# EAGLE library part PCIE-064-02-X-D-RA (library PCIE-064-02-X-D-RA)
PCI EXPRESS RIGHT ANGLE ASSEMBLY.
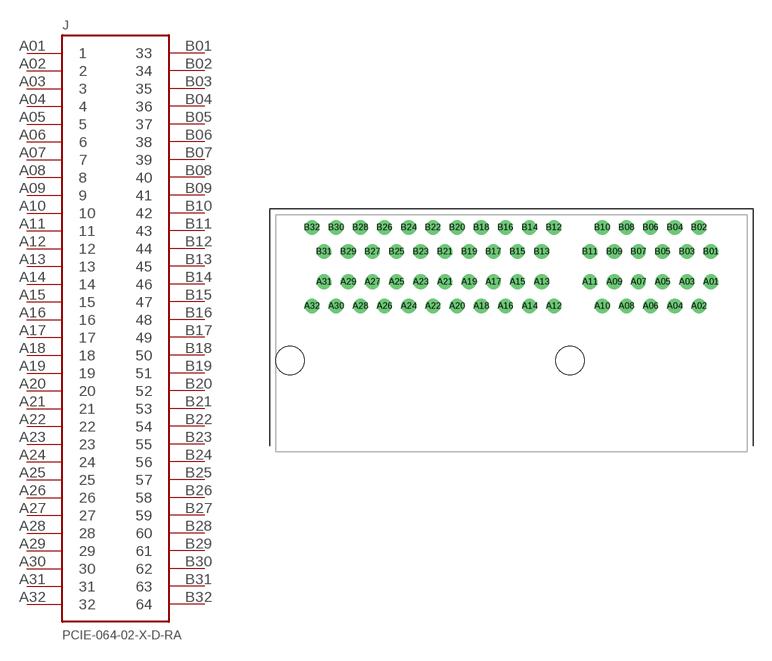
[diagram p0: symbol with the pads of PCIE-064-02-X-D-RA; footprint PCIE-064-02-X-D-RA]

Designator prefix J

## PCIE-064-02-X-D-RA  [PCIE-064-02-X-D-RA]
A01  1
A02  2
A03  3
A04  4
A05  5
A06  6
A07  7
A08  8
A09  9
A10  10
A11  11
A12  12
A13  13
A14  14
A15  15
A16  16
A17  17
A18  18
A19  19
A20  20
A21  21
A22  22
A23  23
A24  24
A25  25
A26  26
A27  27
A28  28
A29  29
A30  30
A31  31
A32  32
B01  33
B02  34
B03  35
B04  36
B05  37
B06  38
B07  39
B08  40
B09  41
B10  42
B11  43
B12  44
B13  45
B14  46
B15  47
B16  48
B17  49
B18  50
B19  51
B20  52
B21  53
B22  54
B23  55
B24  56
B25  57
B26  58
B27  59
B28  60
B29  61
B30  62
B31  63
B32  64

## Footprint PCIE-064-02-X-D-RA (pad centres in mm)
PCI EXPRESS RIGHT ANGLE ASSEMBLY.
drill 0.7 pad 1.1 round: A01 16.5,14.05; A02 15.5,12.05; A03 14.5,14.05; A04 13.5,12.05; A05 12.5,14.05; A06 11.5,12.05; A07 10.5,14.05; A08 9.5,12.05; A09 8.5,14.05; A10 7.5,12.05; A11 6.5,14.05; A12 3.5,12.05; A13 2.5,14.05; A14 1.5,12.05; A15 0.5,14.05; A16 -0.5,12.05; A17 -1.5,14.05; A18 -2.5,12.05; A19 -3.5,14.05; A20 -4.5,12.05; A21 -5.5,14.05; A22 -6.5,12.05; A23 -7.5,14.05; A24 -8.5,12.05; A25 -9.5,14.05; A26 -10.5,12.05; A27 -11.5,14.05; A28 -12.5,12.05; A29 -13.5,14.05; A30 -14.5,12.05; A31 -15.5,14.05; A32 -16.5,12.05; B01 16.5,16.55; B02 15.5,18.55; B03 14.5,16.55; B04 13.5,18.55; B05 12.5,16.55; B06 11.5,18.55; B07 10.5,16.55; B08 9.5,18.55; B09 8.5,16.55; B10 7.5,18.55; B11 6.5,16.55; B12 3.5,18.55; B13 2.5,16.55; B14 1.5,18.55; B15 0.5,16.55; B16 -0.5,18.55; B17 -1.5,16.55; B18 -2.5,18.55; B19 -3.5,16.55; B20 -4.5,18.55; B21 -5.5,16.55; B22 -6.5,18.55; B23 -7.5,16.55; B24 -8.5,18.55; B25 -9.5,16.55; B26 -10.5,18.55; B27 -11.5,16.55; B28 -12.5,18.55; B29 -13.5,16.55; B30 -14.5,18.55; B31 -15.5,16.55; B32 -16.5,18.55
hole 2.35 at 4.85,7.55
hole 2.35 at -18.3,7.55